# EAGLE library part T5336 (library Tristan_Robitaille's_Library)
T5336 MOSFET Driver for Inductive Charging
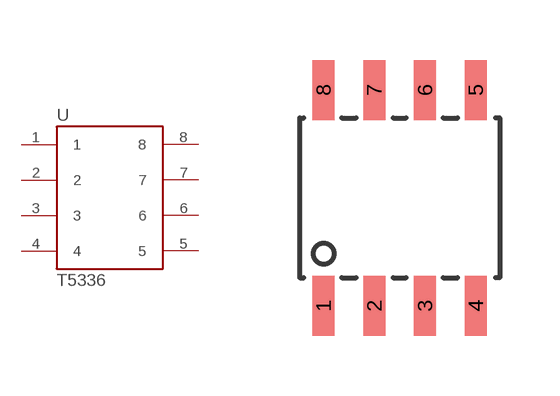
[diagram p2: symbol with the pads of SOIC8; footprint SOIC8]

Designator prefix U

## T5336  [SOIC8]
1  1
2  2
3  3
4  4
5  5
6  6
7  7
8  8

## Footprint SOIC8 (pad centres in mm)
Small Outline IC
smd 0.55 x 1.5: 1 -1.905,-2.7; 2 -0.635,-2.7; 3 0.635,-2.7; 4 1.905,-2.7; 5 1.905,2.7; 6 0.635,2.7; 7 -0.635,2.7; 8 -1.905,2.7